# Altium footprint library Package_CSP.PcbLib: 178 footprints (part 10 of 12)
Each footprint in its own frame and in the unit in brackets; x right, y up, seen from the top. Pads: shape width x height; smd on the part's side, far side on the other; paste and mask are expansions set on the pad; w line width, h text height; cw(c..) or ccw(c..) is an arc to the next point about the centre after c.
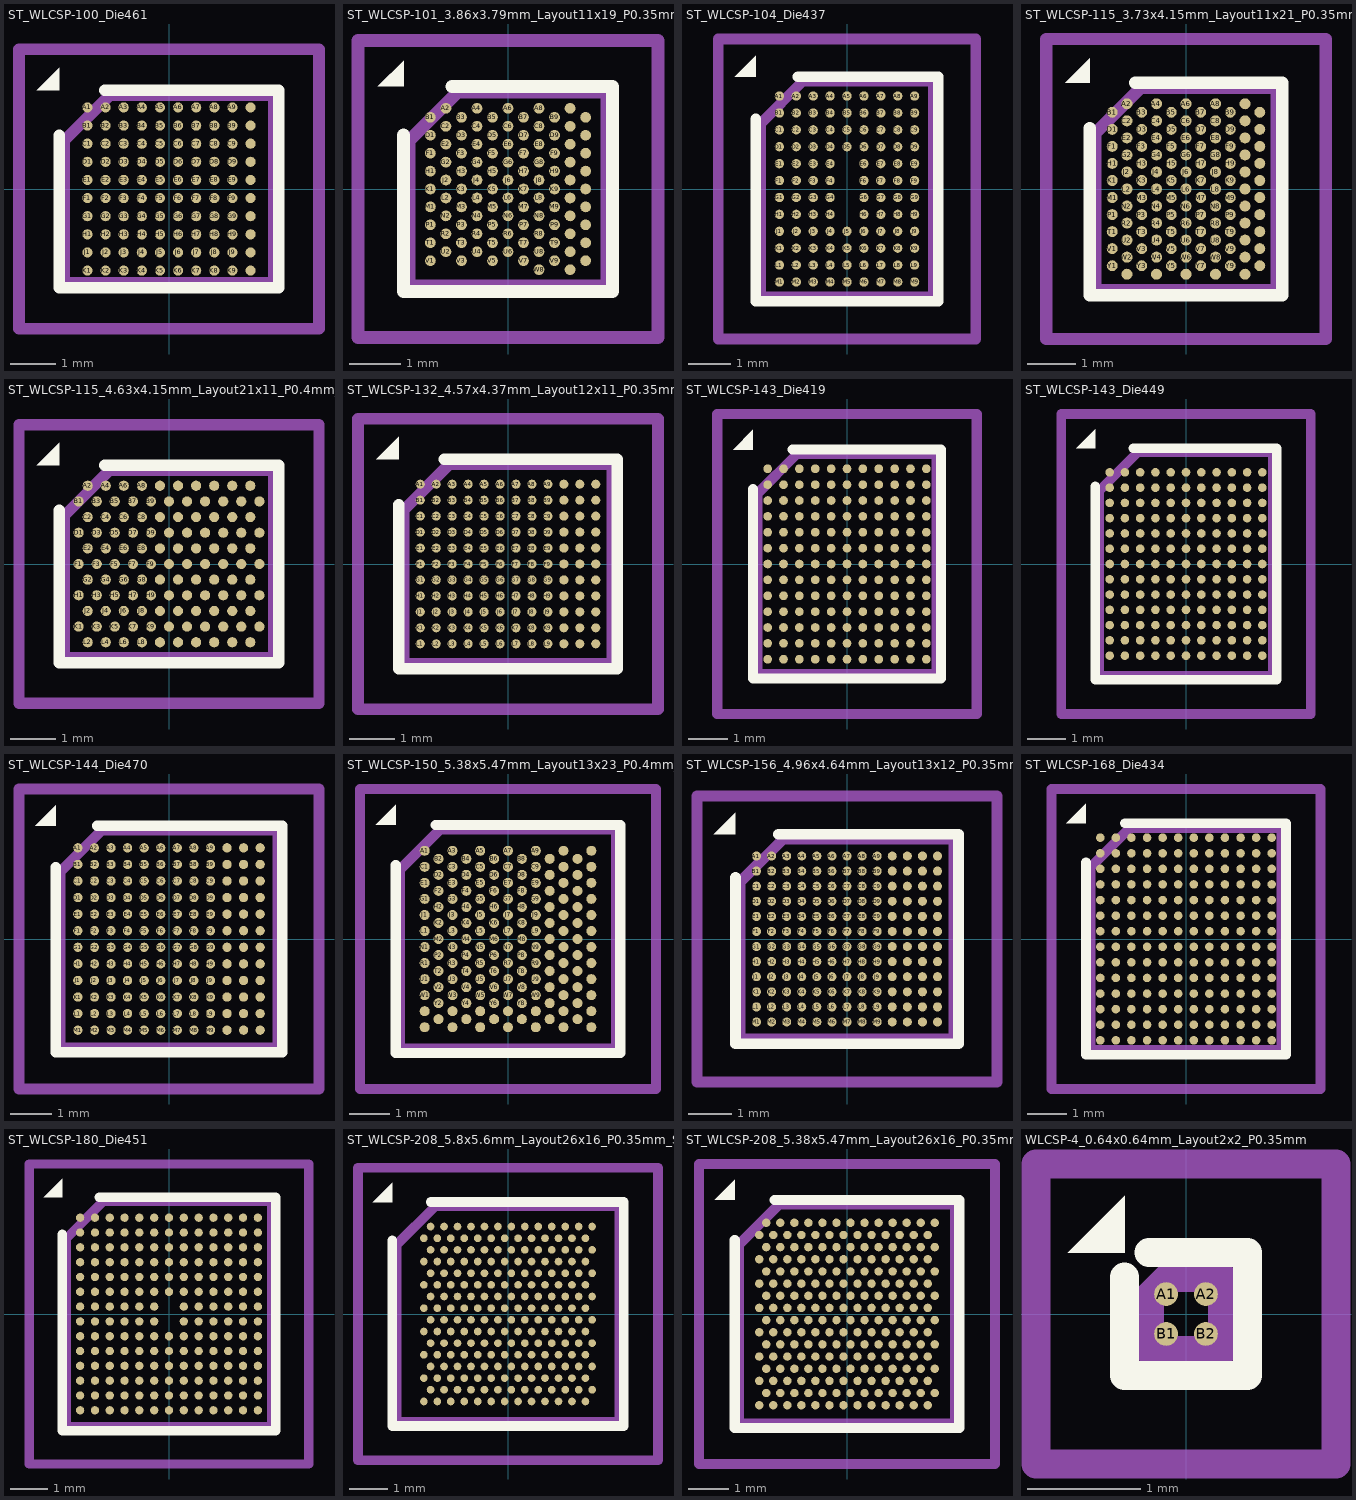
[diagram p9: the footprints below, top view; thin cyan lines are the x and y axes]

## ST_WLCSP-100_Die461 [mm]
pads (100):
  round 0.225 smd: A1(-1.8,1.8) A2(-1.4,1.8) A3(-1,1.8) A4(-0.6,1.8) A5(-0.2,1.8) A6(0.2,1.8) A7(0.6,1.8) A8(1,1.8) A9(1.4,1.8) A10(1.8,1.8) B1(-1.8,1.4) B2(-1.4,1.4) B3(-1,1.4) B4(-0.6,1.4) B5(-0.2,1.4) B6(0.2,1.4) B7(0.6,1.4) B8(1,1.4) B9(1.4,1.4) B10(1.8,1.4) C1(-1.8,1) C2(-1.4,1) C3(-1,1) C4(-0.6,1) C5(-0.2,1) C6(0.2,1) C7(0.6,1) C8(1,1) C9(1.4,1) C10(1.8,1) D1(-1.8,0.6) D2(-1.4,0.6) D3(-1,0.6) D4(-0.6,0.6) D5(-0.2,0.6) D6(0.2,0.6) D7(0.6,0.6) D8(1,0.6) D9(1.4,0.6) D10(1.8,0.6) E1(-1.8,0.2) E2(-1.4,0.2) E3(-1,0.2) E4(-0.6,0.2) E5(-0.2,0.2) E6(0.2,0.2) E7(0.6,0.2) E8(1,0.2) E9(1.4,0.2) E10(1.8,0.2) F1(-1.8,-0.2) F2(-1.4,-0.2) F3(-1,-0.2) F4(-0.6,-0.2) F5(-0.2,-0.2) F6(0.2,-0.2) F7(0.6,-0.2) F8(1,-0.2) F9(1.4,-0.2) F10(1.8,-0.2) G1(-1.8,-0.6) G2(-1.4,-0.6) G3(-1,-0.6) G4(-0.6,-0.6) G5(-0.2,-0.6) G6(0.2,-0.6) G7(0.6,-0.6) G8(1,-0.6) G9(1.4,-0.6) G10(1.8,-0.6) H1(-1.8,-1) H2(-1.4,-1) H3(-1,-1) H4(-0.6,-1) H5(-0.2,-1) H6(0.2,-1) H7(0.6,-1) H8(1,-1) H9(1.4,-1) H10(1.8,-1) J1(-1.8,-1.4) J2(-1.4,-1.4) J3(-1,-1.4) J4(-0.6,-1.4) J5(-0.2,-1.4) J6(0.2,-1.4) J7(0.6,-1.4) J8(1,-1.4) J9(1.4,-1.4) J10(1.8,-1.4) K1(-1.8,-1.8) K2(-1.4,-1.8) K3(-1,-1.8) K4(-0.6,-1.8) K5(-0.2,-1.8) K6(0.2,-1.8) K7(0.6,-1.8) K8(1,-1.8) K9(1.4,-1.8) K10(1.8,-1.8)
F.SilkS:
  region: -2.419,2.181 -2.919,2.181 -2.419,2.681
  lines w0.254: -2.419,1.181 -2.419,-2.181 2.419,-2.181 2.419,2.181 -1.419,2.181
Top Assembly:
  lines w0.254: -2.309,-2.071 2.309,-2.071 2.309,2.071 -1.309,2.071 -2.309,1.071 -2.309,-2.071
  text "'.Designator'" at -4.047,-0.84 h1
Top Courtyard:
  lines w0.254: -3.31,-3.08 3.31,-3.08 3.31,3.08 -3.31,3.08 -3.31,-3.08
Top Designator:
  text ".Designator" at -7.768,-0.508 h1.52

## ST_WLCSP-101_3.86x3.79mm_Layout11x19_P0.35mm_Stagger [mm]
pads (101):
  round 0.21 smd: A2(-1.212,1.575) A4(-0.606,1.575) A6(0,1.575) A8(0.606,1.575) A10(1.212,1.575) B1(-1.516,1.4) B3(-0.909,1.4) B5(-0.303,1.4) B7(0.303,1.4) B9(0.909,1.4) B11(1.516,1.4) C2(-1.212,1.225) C4(-0.606,1.225) C6(0,1.225) C8(0.606,1.225) C10(1.212,1.225) D1(-1.516,1.05) D3(-0.909,1.05) D5(-0.303,1.05) D7(0.303,1.05) D9(0.909,1.05) D11(1.516,1.05) E2(-1.212,0.875) E4(-0.606,0.875) E6(0,0.875) E8(0.606,0.875) E10(1.212,0.875) F1(-1.516,0.7) F3(-0.909,0.7) F5(-0.303,0.7) F7(0.303,0.7) F9(0.909,0.7) F11(1.516,0.7) G2(-1.212,0.525) G4(-0.606,0.525) G6(0,0.525) G8(0.606,0.525) G10(1.212,0.525) H1(-1.516,0.35) H3(-0.909,0.35) H5(-0.303,0.35) H7(0.303,0.35) H9(0.909,0.35) H11(1.516,0.35) J2(-1.212,0.175) J4(-0.606,0.175) J6(0,0.175) J8(0.606,0.175) J10(1.212,0.175) K1(-1.516,0) K3(-0.909,0) K5(-0.303,0) K7(0.303,0) K9(0.909,0) K11(1.516,0) L2(-1.212,-0.175) L4(-0.606,-0.175) L6(0,-0.175) L8(0.606,-0.175) L10(1.212,-0.175) M1(-1.516,-0.35) M3(-0.909,-0.35) M5(-0.303,-0.35) M7(0.303,-0.35) M9(0.909,-0.35) M11(1.516,-0.35) N2(-1.212,-0.525) N4(-0.606,-0.525) N6(0,-0.525) N8(0.606,-0.525) N10(1.212,-0.525) P1(-1.516,-0.7) P3(-0.909,-0.7) P5(-0.303,-0.7) P7(0.303,-0.7) P9(0.909,-0.7) P11(1.516,-0.7) R2(-1.212,-0.875) R4(-0.606,-0.875) R6(0,-0.875) R8(0.606,-0.875) R10(1.212,-0.875) T1(-1.516,-1.05) T3(-0.909,-1.05) T5(-0.303,-1.05) T7(0.303,-1.05) T9(0.909,-1.05) T11(1.516,-1.05) U2(-1.212,-1.225) U4(-0.606,-1.225) U6(0,-1.225) U8(0.606,-1.225) U10(1.212,-1.225) V1(-1.516,-1.4) V3(-0.909,-1.4) V5(-0.303,-1.4) V7(0.303,-1.4) V9(0.909,-1.4) V11(1.516,-1.4) W8(0.606,-1.575) W10(1.212,-1.575)
F.SilkS:
  region: -2.04,2.005 -2.54,2.005 -2.04,2.505
  lines w0.254: -2.04,1.058 -2.04,-2.005 2.04,-2.005 2.04,2.005 -1.092,2.005
Top Assembly:
  lines w0.254: -1.93,-1.895 1.93,-1.895 1.93,1.895 -0.982,1.895 -1.93,0.947 -1.93,-1.895
  text "'.Designator'" at -3.642,-0.756 h0.9
Top Courtyard:
  lines w0.254: -2.93,-2.9 2.93,-2.9 2.93,2.9 -2.93,2.9 -2.93,-2.9
Top Designator:
  text ".Designator" at -7.753,-0.508 h1.52

## ST_WLCSP-104_Die437 [mm]
pads (104):
  round 0.22 smd: A1(-1.6,2.2) A2(-1.2,2.2) A3(-0.8,2.2) A4(-0.4,2.2) A5(0,2.2) A6(0.4,2.2) A7(0.8,2.2) A8(1.2,2.2) A9(1.6,2.2) B1(-1.6,1.8) B2(-1.2,1.8) B3(-0.8,1.8) B4(-0.4,1.8) B5(0,1.8) B6(0.4,1.8) B7(0.8,1.8) B8(1.2,1.8) B9(1.6,1.8) C1(-1.6,1.4) C2(-1.2,1.4) C3(-0.8,1.4) C4(-0.4,1.4) C5(0,1.4) C6(0.4,1.4) C7(0.8,1.4) C8(1.2,1.4) C9(1.6,1.4) D1(-1.6,1) D2(-1.2,1) D3(-0.8,1) D4(-0.4,1) D5(0,1) D6(0.4,1) D7(0.8,1) D8(1.2,1) D9(1.6,1) E1(-1.6,0.6) E2(-1.2,0.6) E3(-0.8,0.6) E4(-0.4,0.6) E6(0.4,0.6) E7(0.8,0.6) E8(1.2,0.6) E9(1.6,0.6) F1(-1.6,0.2) F2(-1.2,0.2) F3(-0.8,0.2) F4(-0.4,0.2) F6(0.4,0.2) F7(0.8,0.2) F8(1.2,0.2) F9(1.6,0.2) G1(-1.6,-0.2) G2(-1.2,-0.2) G3(-0.8,-0.2) G4(-0.4,-0.2) G6(0.4,-0.2) G7(0.8,-0.2) G8(1.2,-0.2) G9(1.6,-0.2) H1(-1.6,-0.6) H2(-1.2,-0.6) H3(-0.8,-0.6) H4(-0.4,-0.6) H6(0.4,-0.6) H7(0.8,-0.6) H8(1.2,-0.6) H9(1.6,-0.6) J1(-1.6,-1) J2(-1.2,-1) J3(-0.8,-1) J4(-0.4,-1) J5(0,-1) J6(0.4,-1) J7(0.8,-1) J8(1.2,-1) J9(1.6,-1) K1(-1.6,-1.4) K2(-1.2,-1.4) K3(-0.8,-1.4) K4(-0.4,-1.4) K5(0,-1.4) K6(0.4,-1.4) K7(0.8,-1.4) K8(1.2,-1.4) K9(1.6,-1.4) L1(-1.6,-1.8) L2(-1.2,-1.8) L3(-0.8,-1.8) L4(-0.4,-1.8) L5(0,-1.8) L6(0.4,-1.8) L7(0.8,-1.8) L8(1.2,-1.8) L9(1.6,-1.8) M1(-1.6,-2.2) M2(-1.2,-2.2) M3(-0.8,-2.2) M4(-0.4,-2.2) M5(0,-2.2) M6(0.4,-2.2) M7(0.8,-2.2) M8(1.2,-2.2) M9(1.6,-2.2)
F.SilkS:
  region: -2.157,2.657 -2.658,2.657 -2.157,3.157
  lines w0.254: -2.157,1.657 -2.157,-2.657 2.157,-2.657 2.157,2.657 -1.158,2.657
Top Assembly:
  lines w0.254: -2.047,-2.547 2.047,-2.547 2.047,2.547 -1.048,2.547 -2.047,1.547 -2.047,-2.547
  text "'.Designator'" at -0.84,4.047 h1
Top Courtyard:
  lines w0.254: -3.05,-3.55 3.05,-3.55 3.05,3.55 -3.05,3.55 -3.05,-3.55
Top Designator:
  text ".Designator" at -7.618,-0.358 h1.52

## ST_WLCSP-115_3.73x4.15mm_Layout11x21_P0.35mm_Stagger [mm]
pads (115):
  round 0.225 smd: A2(-1.212,1.75) A4(-0.606,1.75) A6(0,1.75) A8(0.606,1.75) A10(1.212,1.75) AA2(-1.212,-1.75) AA4(-0.606,-1.75) AA6(0,-1.75) AA8(0.606,-1.75) AA10(1.212,-1.75) B1(-1.516,1.575) B3(-0.909,1.575) B5(-0.303,1.575) B7(0.303,1.575) B9(0.909,1.575) B11(1.516,1.575) C2(-1.212,1.4) C4(-0.606,1.4) C6(0,1.4) C8(0.606,1.4) C10(1.212,1.4) D1(-1.516,1.225) D3(-0.909,1.225) D5(-0.303,1.225) D7(0.303,1.225) D9(0.909,1.225) D11(1.516,1.225) E2(-1.212,1.05) E4(-0.606,1.05) E6(0,1.05) E8(0.606,1.05) E10(1.212,1.05) F1(-1.516,0.875) F3(-0.909,0.875) F5(-0.303,0.875) F7(0.303,0.875) F9(0.909,0.875) F11(1.516,0.875) G2(-1.212,0.7) G4(-0.606,0.7) G6(0,0.7) G8(0.606,0.7) G10(1.212,0.7) H1(-1.516,0.525) H3(-0.909,0.525) H5(-0.303,0.525) H7(0.303,0.525) H9(0.909,0.525) H11(1.516,0.525) J2(-1.212,0.35) J4(-0.606,0.35) J6(0,0.35) J8(0.606,0.35) J10(1.212,0.35) K1(-1.516,0.175) K3(-0.909,0.175) K5(-0.303,0.175) K7(0.303,0.175) K9(0.909,0.175) K11(1.516,0.175) L2(-1.212,0) L4(-0.606,0) L6(0,0) L8(0.606,0) L10(1.212,0) M1(-1.516,-0.175) M3(-0.909,-0.175) M5(-0.303,-0.175) M7(0.303,-0.175) M9(0.909,-0.175) M11(1.516,-0.175) N2(-1.212,-0.35) N4(-0.606,-0.35) N6(0,-0.35) N8(0.606,-0.35) N10(1.212,-0.35) P1(-1.516,-0.525) P3(-0.909,-0.525) P5(-0.303,-0.525) P7(0.303,-0.525) P9(0.909,-0.525) P11(1.516,-0.525) R2(-1.212,-0.7) R4(-0.606,-0.7) R6(0,-0.7) R8(0.606,-0.7) R10(1.212,-0.7) T1(-1.516,-0.875) T3(-0.909,-0.875) T5(-0.303,-0.875) T7(0.303,-0.875) T9(0.909,-0.875) T11(1.516,-0.875) U2(-1.212,-1.05) U4(-0.606,-1.05) U6(0,-1.05) U8(0.606,-1.05) U10(1.212,-1.05) V1(-1.516,-1.225) V3(-0.909,-1.225) V5(-0.303,-1.225) V7(0.303,-1.225) V9(0.909,-1.225) V11(1.516,-1.225) W2(-1.212,-1.4) W4(-0.606,-1.4) W6(0,-1.4) W8(0.606,-1.4) W10(1.212,-1.4) Y1(-1.516,-1.575) Y3(-0.909,-1.575) Y5(-0.303,-1.575) Y7(0.303,-1.575) Y9(0.909,-1.575) Y11(1.516,-1.575)
F.SilkS:
  region: -1.975,2.185 -2.475,2.185 -1.975,2.685
  lines w0.254: -1.975,1.252 -1.975,-2.185 1.975,-2.185 1.975,2.185 -1.042,2.185
Top Assembly:
  lines w0.254: -1.865,-2.075 1.865,-2.075 1.865,2.075 -0.933,2.075 -1.865,1.142 -1.865,-2.075
  text "'.Designator'" at -0.815,3.925 h0.97
Top Courtyard:
  lines w0.254: -2.87,-3.08 2.87,-3.08 2.87,3.08 -2.87,3.08 -2.87,-3.08
Top Designator:
  text ".Designator" at -7.618,-0.362 h1.52

## ST_WLCSP-115_4.63x4.15mm_Layout21x11_P0.4mm_Stagger [mm]
pads (115):
  round 0.225 smd: A2(-1.8,1.732) A4(-1.4,1.732) A6(-1,1.732) A8(-0.6,1.732) A10(-0.2,1.732) A12(0.2,1.732) A14(0.6,1.732) A16(1,1.732) A18(1.4,1.732) A20(1.8,1.732) B1(-2,1.386) B3(-1.6,1.386) B5(-1.2,1.386) B7(-0.8,1.386) B9(-0.4,1.386) B11(0,1.386) B13(0.4,1.386) B15(0.8,1.386) B17(1.2,1.386) B19(1.6,1.386) B21(2,1.386) C2(-1.8,1.039) C4(-1.4,1.039) C6(-1,1.039) C8(-0.6,1.039) C10(-0.2,1.039) C12(0.2,1.039) C14(0.6,1.039) C16(1,1.039) C18(1.4,1.039) C20(1.8,1.039) D1(-2,0.693) D3(-1.6,0.693) D5(-1.2,0.693) D7(-0.8,0.693) D9(-0.4,0.693) D11(0,0.693) D13(0.4,0.693) D15(0.8,0.693) D17(1.2,0.693) D19(1.6,0.693) D21(2,0.693) E2(-1.8,0.346) E4(-1.4,0.346) E6(-1,0.346) E8(-0.6,0.346) E10(-0.2,0.346) E12(0.2,0.346) E14(0.6,0.346) E16(1,0.346) E18(1.4,0.346) E20(1.8,0.346) F1(-2,0) F3(-1.6,0) F5(-1.2,0) F7(-0.8,0) F9(-0.4,0) F11(0,0) F13(0.4,0) F15(0.8,0) F17(1.2,0) F19(1.6,0) F21(2,0) G2(-1.8,-0.346) G4(-1.4,-0.346) G6(-1,-0.346) G8(-0.6,-0.346) G10(-0.2,-0.346) G12(0.2,-0.346) G14(0.6,-0.346) G16(1,-0.346) G18(1.4,-0.346) G20(1.8,-0.346) H1(-2,-0.693) H3(-1.6,-0.693) H5(-1.2,-0.693) H7(-0.8,-0.693) H9(-0.4,-0.693) H11(0,-0.693) H13(0.4,-0.693) H15(0.8,-0.693) H17(1.2,-0.693) H19(1.6,-0.693) H21(2,-0.693) J2(-1.8,-1.039) J4(-1.4,-1.039) J6(-1,-1.039) J8(-0.6,-1.039) J10(-0.2,-1.039) J12(0.2,-1.039) J14(0.6,-1.039) J16(1,-1.039) J18(1.4,-1.039) J20(1.8,-1.039) K1(-2,-1.386) K3(-1.6,-1.386) K5(-1.2,-1.386) K7(-0.8,-1.386) K9(-0.4,-1.386) K11(0,-1.386) K13(0.4,-1.386) K15(0.8,-1.386) K17(1.2,-1.386) K19(1.6,-1.386) K21(2,-1.386) L2(-1.8,-1.732) L4(-1.4,-1.732) L6(-1,-1.732) L8(-0.6,-1.732) L10(-0.2,-1.732) L12(0.2,-1.732) L14(0.6,-1.732) L16(1,-1.732) L18(1.4,-1.732) L20(1.8,-1.732)
F.SilkS:
  region: -2.425,2.185 -2.925,2.185 -2.425,2.685
  lines w0.254: -2.425,1.185 -2.425,-2.185 2.425,-2.185 2.425,2.185 -1.425,2.185
Top Assembly:
  lines w0.254: -2.315,-2.075 2.315,-2.075 2.315,2.075 -1.315,2.075 -2.315,1.075 -2.315,-2.075
  text "'.Designator'" at -4.047,-0.84 h1
Top Courtyard:
  lines w0.254: -3.32,-3.08 3.32,-3.08 3.32,3.08 -3.32,3.08 -3.32,-3.08
Top Designator:
  text ".Designator" at -7.768,-0.508 h1.52

## ST_WLCSP-132_4.57x4.37mm_Layout12x11_P0.35mm [mm]
pads (132):
  round 0.2 smd: A1(-1.925,1.75) A2(-1.575,1.75) A3(-1.225,1.75) A4(-0.875,1.75) A5(-0.525,1.75) A6(-0.175,1.75) A7(0.175,1.75) A8(0.525,1.75) A9(0.875,1.75) A10(1.225,1.75) A11(1.575,1.75) A12(1.925,1.75) B1(-1.925,1.4) B2(-1.575,1.4) B3(-1.225,1.4) B4(-0.875,1.4) B5(-0.525,1.4) B6(-0.175,1.4) B7(0.175,1.4) B8(0.525,1.4) B9(0.875,1.4) B10(1.225,1.4) B11(1.575,1.4) B12(1.925,1.4) C1(-1.925,1.05) C2(-1.575,1.05) C3(-1.225,1.05) C4(-0.875,1.05) C5(-0.525,1.05) C6(-0.175,1.05) C7(0.175,1.05) C8(0.525,1.05) C9(0.875,1.05) C10(1.225,1.05) C11(1.575,1.05) C12(1.925,1.05) D1(-1.925,0.7) D2(-1.575,0.7) D3(-1.225,0.7) D4(-0.875,0.7) D5(-0.525,0.7) D6(-0.175,0.7) D7(0.175,0.7) D8(0.525,0.7) D9(0.875,0.7) D10(1.225,0.7) D11(1.575,0.7) D12(1.925,0.7) E1(-1.925,0.35) E2(-1.575,0.35) E3(-1.225,0.35) E4(-0.875,0.35) E5(-0.525,0.35) E6(-0.175,0.35) E7(0.175,0.35) E8(0.525,0.35) E9(0.875,0.35) E10(1.225,0.35) E11(1.575,0.35) E12(1.925,0.35) F1(-1.925,0) F2(-1.575,0) F3(-1.225,0) F4(-0.875,0) F5(-0.525,0) F6(-0.175,0) F7(0.175,0) F8(0.525,0) F9(0.875,0) F10(1.225,0) F11(1.575,0) F12(1.925,0) G1(-1.925,-0.35) G2(-1.575,-0.35) G3(-1.225,-0.35) G4(-0.875,-0.35) G5(-0.525,-0.35) G6(-0.175,-0.35) G7(0.175,-0.35) G8(0.525,-0.35) G9(0.875,-0.35) G10(1.225,-0.35) G11(1.575,-0.35) G12(1.925,-0.35) H1(-1.925,-0.7) H2(-1.575,-0.7) H3(-1.225,-0.7) H4(-0.875,-0.7) H5(-0.525,-0.7) H6(-0.175,-0.7) H7(0.175,-0.7) H8(0.525,-0.7) H9(0.875,-0.7) H10(1.225,-0.7) H11(1.575,-0.7) H12(1.925,-0.7) J1(-1.925,-1.05) J2(-1.575,-1.05) J3(-1.225,-1.05) J4(-0.875,-1.05) J5(-0.525,-1.05) J6(-0.175,-1.05) J7(0.175,-1.05) J8(0.525,-1.05) J9(0.875,-1.05) J10(1.225,-1.05) J11(1.575,-1.05) J12(1.925,-1.05) K1(-1.925,-1.4) K2(-1.575,-1.4) K3(-1.225,-1.4) K4(-0.875,-1.4) K5(-0.525,-1.4) K6(-0.175,-1.4) K7(0.175,-1.4) K8(0.525,-1.4) K9(0.875,-1.4) K10(1.225,-1.4) K11(1.575,-1.4) K12(1.925,-1.4) L1(-1.925,-1.75) L2(-1.575,-1.75) L3(-1.225,-1.75) L4(-0.875,-1.75) L5(-0.525,-1.75) L6(-0.175,-1.75) L7(0.175,-1.75) L8(0.525,-1.75) L9(0.875,-1.75) L10(1.225,-1.75) L11(1.575,-1.75) L12(1.925,-1.75)
F.SilkS:
  region: -2.395,2.295 -2.895,2.295 -2.395,2.795
  lines w0.254: -2.395,1.295 -2.395,-2.295 2.395,-2.295 2.395,2.295 -1.395,2.295
Top Assembly:
  lines w0.254: -2.285,-2.185 2.285,-2.185 2.285,2.185 -1.285,2.185 -2.285,1.185 -2.285,-2.185
  text "'.Designator'" at -4.047,-0.84 h1
Top Courtyard:
  lines w0.254: -3.29,-3.19 3.29,-3.19 3.29,3.19 -3.29,3.19 -3.29,-3.19
Top Designator:
  text ".Designator" at -7.768,-0.508 h1.52

## ST_WLCSP-143_Die419 [mm]
pads (143):
  round 0.22 smd: A1(-2,2.4) A2(-1.6,2.4) A3(-1.2,2.4) A4(-0.8,2.4) A5(-0.4,2.4) A6(0,2.4) A7(0.4,2.4) A8(0.8,2.4) A9(1.2,2.4) A10(1.6,2.4) A11(2,2.4) B1(-2,2) B2(-1.6,2) B3(-1.2,2) B4(-0.8,2) B5(-0.4,2) B6(0,2) B7(0.4,2) B8(0.8,2) B9(1.2,2) B10(1.6,2) B11(2,2) C1(-2,1.6) C2(-1.6,1.6) C3(-1.2,1.6) C4(-0.8,1.6) C5(-0.4,1.6) C6(0,1.6) C7(0.4,1.6) C8(0.8,1.6) C9(1.2,1.6) C10(1.6,1.6) C11(2,1.6) D1(-2,1.2) D2(-1.6,1.2) D3(-1.2,1.2) D4(-0.8,1.2) D5(-0.4,1.2) D6(0,1.2) D7(0.4,1.2) D8(0.8,1.2) D9(1.2,1.2) D10(1.6,1.2) D11(2,1.2) E1(-2,0.8) E2(-1.6,0.8) E3(-1.2,0.8) E4(-0.8,0.8) E5(-0.4,0.8) E6(0,0.8) E7(0.4,0.8) E8(0.8,0.8) E9(1.2,0.8) E10(1.6,0.8) E11(2,0.8) F1(-2,0.4) F2(-1.6,0.4) F3(-1.2,0.4) F4(-0.8,0.4) F5(-0.4,0.4) F6(0,0.4) F7(0.4,0.4) F8(0.8,0.4) F9(1.2,0.4) F10(1.6,0.4) F11(2,0.4) G1(-2,0) G2(-1.6,0) G3(-1.2,0) G4(-0.8,0) G5(-0.4,0) G6(0,0) G7(0.4,0) G8(0.8,0) G9(1.2,0) G10(1.6,0) G11(2,0) H1(-2,-0.4) H2(-1.6,-0.4) H3(-1.2,-0.4) H4(-0.8,-0.4) H5(-0.4,-0.4) H6(0,-0.4) H7(0.4,-0.4) H8(0.8,-0.4) H9(1.2,-0.4) H10(1.6,-0.4) H11(2,-0.4) J1(-2,-0.8) J2(-1.6,-0.8) J3(-1.2,-0.8) J4(-0.8,-0.8) J5(-0.4,-0.8) J6(0,-0.8) J7(0.4,-0.8) J8(0.8,-0.8) J9(1.2,-0.8) J10(1.6,-0.8) J11(2,-0.8) K1(-2,-1.2) K2(-1.6,-1.2) K3(-1.2,-1.2) K4(-0.8,-1.2) K5(-0.4,-1.2) K6(0,-1.2) K7(0.4,-1.2) K8(0.8,-1.2) K9(1.2,-1.2) K10(1.6,-1.2) K11(2,-1.2) L1(-2,-1.6) L2(-1.6,-1.6) L3(-1.2,-1.6) L4(-0.8,-1.6) L5(-0.4,-1.6) L6(0,-1.6) L7(0.4,-1.6) L8(0.8,-1.6) L9(1.2,-1.6) L10(1.6,-1.6) L11(2,-1.6) M1(-2,-2) M2(-1.6,-2) M3(-1.2,-2) M4(-0.8,-2) M5(-0.4,-2) M6(0,-2) M7(0.4,-2) M8(0.8,-2) M9(1.2,-2) M10(1.6,-2) M11(2,-2) N1(-2,-2.4) N2(-1.6,-2.4) N3(-1.2,-2.4) N4(-0.8,-2.4) N5(-0.4,-2.4) N6(0,-2.4) N7(0.4,-2.4) N8(0.8,-2.4) N9(1.2,-2.4) N10(1.6,-2.4) N11(2,-2.4)
F.SilkS:
  region: -2.371,2.883 -2.87,2.883 -2.371,3.384
  lines w0.254: -2.371,1.883 -2.371,-2.883 2.371,-2.883 2.371,2.883 -1.371,2.883
Top Assembly:
  lines w0.254: -2.261,-2.773 2.261,-2.773 2.261,2.773 -1.261,2.773 -2.261,1.773 -2.261,-2.773
  text "'.Designator'" at -4.047,-0.84 h1
Top Courtyard:
  lines w0.254: -3.27,-3.78 3.27,-3.78 3.27,3.78 -3.27,3.78 -3.27,-3.78
Top Designator:
  text ".Designator" at -7.768,-0.508 h1.52

## ST_WLCSP-143_Die449 [mm]
pads (143):
  round 0.225 smd: A1(-2,2.4) A2(-1.6,2.4) A3(-1.2,2.4) A4(-0.8,2.4) A5(-0.4,2.4) A6(0,2.4) A7(0.4,2.4) A8(0.8,2.4) A9(1.2,2.4) A10(1.6,2.4) A11(2,2.4) B1(-2,2) B2(-1.6,2) B3(-1.2,2) B4(-0.8,2) B5(-0.4,2) B6(0,2) B7(0.4,2) B8(0.8,2) B9(1.2,2) B10(1.6,2) B11(2,2) C1(-2,1.6) C2(-1.6,1.6) C3(-1.2,1.6) C4(-0.8,1.6) C5(-0.4,1.6) C6(0,1.6) C7(0.4,1.6) C8(0.8,1.6) C9(1.2,1.6) C10(1.6,1.6) C11(2,1.6) D1(-2,1.2) D2(-1.6,1.2) D3(-1.2,1.2) D4(-0.8,1.2) D5(-0.4,1.2) D6(0,1.2) D7(0.4,1.2) D8(0.8,1.2) D9(1.2,1.2) D10(1.6,1.2) D11(2,1.2) E1(-2,0.8) E2(-1.6,0.8) E3(-1.2,0.8) E4(-0.8,0.8) E5(-0.4,0.8) E6(0,0.8) E7(0.4,0.8) E8(0.8,0.8) E9(1.2,0.8) E10(1.6,0.8) E11(2,0.8) F1(-2,0.4) F2(-1.6,0.4) F3(-1.2,0.4) F4(-0.8,0.4) F5(-0.4,0.4) F6(0,0.4) F7(0.4,0.4) F8(0.8,0.4) F9(1.2,0.4) F10(1.6,0.4) F11(2,0.4) G1(-2,0) G2(-1.6,0) G3(-1.2,0) G4(-0.8,0) G5(-0.4,0) G6(0,0) G7(0.4,0) G8(0.8,0) G9(1.2,0) G10(1.6,0) G11(2,0) H1(-2,-0.4) H2(-1.6,-0.4) H3(-1.2,-0.4) H4(-0.8,-0.4) H5(-0.4,-0.4) H6(0,-0.4) H7(0.4,-0.4) H8(0.8,-0.4) H9(1.2,-0.4) H10(1.6,-0.4) H11(2,-0.4) J1(-2,-0.8) J2(-1.6,-0.8) J3(-1.2,-0.8) J4(-0.8,-0.8) J5(-0.4,-0.8) J6(0,-0.8) J7(0.4,-0.8) J8(0.8,-0.8) J9(1.2,-0.8) J10(1.6,-0.8) J11(2,-0.8) K1(-2,-1.2) K2(-1.6,-1.2) K3(-1.2,-1.2) K4(-0.8,-1.2) K5(-0.4,-1.2) K6(0,-1.2) K7(0.4,-1.2) K8(0.8,-1.2) K9(1.2,-1.2) K10(1.6,-1.2) K11(2,-1.2) L1(-2,-1.6) L2(-1.6,-1.6) L3(-1.2,-1.6) L4(-0.8,-1.6) L5(-0.4,-1.6) L6(0,-1.6) L7(0.4,-1.6) L8(0.8,-1.6) L9(1.2,-1.6) L10(1.6,-1.6) L11(2,-1.6) M1(-2,-2) M2(-1.6,-2) M3(-1.2,-2) M4(-0.8,-2) M5(-0.4,-2) M6(0,-2) M7(0.4,-2) M8(0.8,-2) M9(1.2,-2) M10(1.6,-2) M11(2,-2) N1(-2,-2.4) N2(-1.6,-2.4) N3(-1.2,-2.4) N4(-0.8,-2.4) N5(-0.4,-2.4) N6(0,-2.4) N7(0.4,-2.4) N8(0.8,-2.4) N9(1.2,-2.4) N10(1.6,-2.4) N11(2,-2.4)
F.SilkS:
  region: -2.379,3.034 -2.879,3.034 -2.379,3.534
  lines w0.254: -2.379,2.034 -2.379,-3.034 2.379,-3.034 2.379,3.034 -1.379,3.034
Top Assembly:
  lines w0.254: -2.27,-2.925 2.27,-2.925 2.27,2.925 -1.269,2.925 -2.27,1.924 -2.27,-2.925
  text "'.Designator'" at -4.047,-0.84 h1
Top Courtyard:
  lines w0.254: -3.27,-3.93 3.27,-3.93 3.27,3.93 -3.27,3.93 -3.27,-3.93
Top Designator:
  text ".Designator" at -7.768,-0.508 h1.52

## ST_WLCSP-144_Die470 [mm]
pads (144):
  round 0.225 smd: A1(-2.2,2.2) A2(-1.8,2.2) A3(-1.4,2.2) A4(-1,2.2) A5(-0.6,2.2) A6(-0.2,2.2) A7(0.2,2.2) A8(0.6,2.2) A9(1,2.2) A10(1.4,2.2) A11(1.8,2.2) A12(2.2,2.2) B1(-2.2,1.8) B2(-1.8,1.8) B3(-1.4,1.8) B4(-1,1.8) B5(-0.6,1.8) B6(-0.2,1.8) B7(0.2,1.8) B8(0.6,1.8) B9(1,1.8) B10(1.4,1.8) B11(1.8,1.8) B12(2.2,1.8) C1(-2.2,1.4) C2(-1.8,1.4) C3(-1.4,1.4) C4(-1,1.4) C5(-0.6,1.4) C6(-0.2,1.4) C7(0.2,1.4) C8(0.6,1.4) C9(1,1.4) C10(1.4,1.4) C11(1.8,1.4) C12(2.2,1.4) D1(-2.2,1) D2(-1.8,1) D3(-1.4,1) D4(-1,1) D5(-0.6,1) D6(-0.2,1) D7(0.2,1) D8(0.6,1) D9(1,1) D10(1.4,1) D11(1.8,1) D12(2.2,1) E1(-2.2,0.6) E2(-1.8,0.6) E3(-1.4,0.6) E4(-1,0.6) E5(-0.6,0.6) E6(-0.2,0.6) E7(0.2,0.6) E8(0.6,0.6) E9(1,0.6) E10(1.4,0.6) E11(1.8,0.6) E12(2.2,0.6) F1(-2.2,0.2) F2(-1.8,0.2) F3(-1.4,0.2) F4(-1,0.2) F5(-0.6,0.2) F6(-0.2,0.2) F7(0.2,0.2) F8(0.6,0.2) F9(1,0.2) F10(1.4,0.2) F11(1.8,0.2) F12(2.2,0.2) G1(-2.2,-0.2) G2(-1.8,-0.2) G3(-1.4,-0.2) G4(-1,-0.2) G5(-0.6,-0.2) G6(-0.2,-0.2) G7(0.2,-0.2) G8(0.6,-0.2) G9(1,-0.2) G10(1.4,-0.2) G11(1.8,-0.2) G12(2.2,-0.2) H1(-2.2,-0.6) H2(-1.8,-0.6) H3(-1.4,-0.6) H4(-1,-0.6) H5(-0.6,-0.6) H6(-0.2,-0.6) H7(0.2,-0.6) H8(0.6,-0.6) H9(1,-0.6) H10(1.4,-0.6) H11(1.8,-0.6) H12(2.2,-0.6) J1(-2.2,-1) J2(-1.8,-1) J3(-1.4,-1) J4(-1,-1) J5(-0.6,-1) J6(-0.2,-1) J7(0.2,-1) J8(0.6,-1) J9(1,-1) J10(1.4,-1) J11(1.8,-1) J12(2.2,-1) K1(-2.2,-1.4) K2(-1.8,-1.4) K3(-1.4,-1.4) K4(-1,-1.4) K5(-0.6,-1.4) K6(-0.2,-1.4) K7(0.2,-1.4) K8(0.6,-1.4) K9(1,-1.4) K10(1.4,-1.4) K11(1.8,-1.4) K12(2.2,-1.4) L1(-2.2,-1.8) L2(-1.8,-1.8) L3(-1.4,-1.8) L4(-1,-1.8) L5(-0.6,-1.8) L6(-0.2,-1.8) L7(0.2,-1.8) L8(0.6,-1.8) L9(1,-1.8) L10(1.4,-1.8) L11(1.8,-1.8) L12(2.2,-1.8) M1(-2.2,-2.2) M2(-1.8,-2.2) M3(-1.4,-2.2) M4(-1,-2.2) M5(-0.6,-2.2) M6(-0.2,-2.2) M7(0.2,-2.2) M8(0.6,-2.2) M9(1,-2.2) M10(1.4,-2.2) M11(1.8,-2.2) M12(2.2,-2.2)
F.SilkS:
  region: -2.73,2.73 -3.23,2.73 -2.73,3.23
  lines w0.254: -2.73,1.73 -2.73,-2.73 2.73,-2.73 2.73,2.73 -1.73,2.73
Top Assembly:
  lines w0.254: -2.62,-2.62 2.62,-2.62 2.62,2.62 -1.62,2.62 -2.62,1.62 -2.62,-2.62
  text "'.Designator'" at -4.047,-0.84 h1
Top Courtyard:
  lines w0.254: -3.62,-3.62 3.62,-3.62 3.62,3.62 -3.62,3.62 -3.62,-3.62
Top Designator:
  text ".Designator" at -7.768,-0.508 h1.52

## ST_WLCSP-150_5.38x5.47mm_Layout13x23_P0.4mm_Stagger [mm]
pads (150):
  round 0.25 smd: A1(-2.078,2.2) A3(-1.386,2.2) A5(-0.693,2.2) A7(0,2.2) A9(0.693,2.2) A11(1.386,2.2) A13(2.078,2.2) AA1(-2.078,-1.8) AA3(-1.386,-1.8) AA5(-0.693,-1.8) AA7(0,-1.8) AA9(0.693,-1.8) AA11(1.386,-1.8) AA13(2.078,-1.8) AB2(-1.732,-2) AB4(-1.039,-2) AB6(-0.346,-2) AB8(0.346,-2) AB10(1.039,-2) AB12(1.732,-2) AC1(-2.078,-2.2) AC3(-1.386,-2.2) AC5(-0.693,-2.2) AC7(0,-2.2) AC9(0.693,-2.2) AC11(1.386,-2.2) AC13(2.078,-2.2) B2(-1.732,2) B4(-1.039,2) B6(-0.346,2) B8(0.346,2) B10(1.039,2) B12(1.732,2) C1(-2.078,1.8) C3(-1.386,1.8) C5(-0.693,1.8) C7(0,1.8) C9(0.693,1.8) C11(1.386,1.8) C13(2.078,1.8) D2(-1.732,1.6) D4(-1.039,1.6) D6(-0.346,1.6) D8(0.346,1.6) D10(1.039,1.6) D12(1.732,1.6) E1(-2.078,1.4) E3(-1.386,1.4) E5(-0.693,1.4) E7(0,1.4) E9(0.693,1.4) E11(1.386,1.4) E13(2.078,1.4) F2(-1.732,1.2) F4(-1.039,1.2) F6(-0.346,1.2) F8(0.346,1.2) F10(1.039,1.2) F12(1.732,1.2) G1(-2.078,1) G3(-1.386,1) G5(-0.693,1) G7(0,1) G9(0.693,1) G11(1.386,1) G13(2.078,1) H2(-1.732,0.8) H4(-1.039,0.8) H6(-0.346,0.8) H8(0.346,0.8) H10(1.039,0.8) H12(1.732,0.8) J1(-2.078,0.6) J3(-1.386,0.6) J5(-0.693,0.6) J7(0,0.6) J9(0.693,0.6) J11(1.386,0.6) J13(2.078,0.6) K2(-1.732,0.4) K4(-1.039,0.4) K6(-0.346,0.4) K8(0.346,0.4) K10(1.039,0.4) K12(1.732,0.4) L1(-2.078,0.2) L3(-1.386,0.2) L5(-0.693,0.2) L7(0,0.2) L9(0.693,0.2) L11(1.386,0.2) L13(2.078,0.2) M2(-1.732,0) M4(-1.039,0) M6(-0.346,0) M8(0.346,0) M10(1.039,0) M12(1.732,0) N1(-2.078,-0.2) N3(-1.386,-0.2) N5(-0.693,-0.2) N7(0,-0.2) N9(0.693,-0.2) N11(1.386,-0.2) N13(2.078,-0.2) P2(-1.732,-0.4) P4(-1.039,-0.4) P6(-0.346,-0.4) P8(0.346,-0.4) P10(1.039,-0.4) P12(1.732,-0.4) R1(-2.078,-0.6) R3(-1.386,-0.6) R5(-0.693,-0.6) R7(0,-0.6) R9(0.693,-0.6) R11(1.386,-0.6) R13(2.078,-0.6) T2(-1.732,-0.8) T4(-1.039,-0.8) T6(-0.346,-0.8) T8(0.346,-0.8) T10(1.039,-0.8) T12(1.732,-0.8) U1(-2.078,-1) U3(-1.386,-1) U5(-0.693,-1) U7(0,-1) U9(0.693,-1) U11(1.386,-1) U13(2.078,-1) V2(-1.732,-1.2) V4(-1.039,-1.2) V6(-0.346,-1.2) V8(0.346,-1.2) V10(1.039,-1.2) V12(1.732,-1.2) W1(-2.078,-1.4) W3(-1.386,-1.4) W5(-0.693,-1.4) W7(0,-1.4) W9(0.693,-1.4) W11(1.386,-1.4) W13(2.078,-1.4) Y2(-1.732,-1.6) Y4(-1.039,-1.6) Y6(-0.346,-1.6) Y8(0.346,-1.6) Y10(1.039,-1.6) Y12(1.732,-1.6)
F.SilkS:
  region: -2.8,2.845 -3.3,2.845 -2.8,3.345
  lines w0.254: -2.8,1.845 -2.8,-2.845 2.8,-2.845 2.8,2.845 -1.8,2.845
Top Assembly:
  lines w0.254: -2.69,-2.735 2.69,-2.735 2.69,2.735 -1.69,2.735 -2.69,1.735 -2.69,-2.735
  text "'.Designator'" at -4.047,-0.84 h1
Top Courtyard:
  lines w0.254: -3.69,-3.74 3.69,-3.74 3.69,3.74 -3.69,3.74 -3.69,-3.74
Top Designator:
  text ".Designator" at -7.768,-0.508 h1.52

## ST_WLCSP-156_4.96x4.64mm_Layout13x12_P0.35mm [mm]
pads (156):
  round 0.21 smd: A1(-2.1,1.925) A2(-1.75,1.925) A3(-1.4,1.925) A4(-1.05,1.925) A5(-0.7,1.925) A6(-0.35,1.925) A7(0,1.925) A8(0.35,1.925) A9(0.7,1.925) A10(1.05,1.925) A11(1.4,1.925) A12(1.75,1.925) A13(2.1,1.925) B1(-2.1,1.575) B2(-1.75,1.575) B3(-1.4,1.575) B4(-1.05,1.575) B5(-0.7,1.575) B6(-0.35,1.575) B7(0,1.575) B8(0.35,1.575) B9(0.7,1.575) B10(1.05,1.575) B11(1.4,1.575) B12(1.75,1.575) B13(2.1,1.575) C1(-2.1,1.225) C2(-1.75,1.225) C3(-1.4,1.225) C4(-1.05,1.225) C5(-0.7,1.225) C6(-0.35,1.225) C7(0,1.225) C8(0.35,1.225) C9(0.7,1.225) C10(1.05,1.225) C11(1.4,1.225) C12(1.75,1.225) C13(2.1,1.225) D1(-2.1,0.875) D2(-1.75,0.875) D3(-1.4,0.875) D4(-1.05,0.875) D5(-0.7,0.875) D6(-0.35,0.875) D7(0,0.875) D8(0.35,0.875) D9(0.7,0.875) D10(1.05,0.875) D11(1.4,0.875) D12(1.75,0.875) D13(2.1,0.875) E1(-2.1,0.525) E2(-1.75,0.525) E3(-1.4,0.525) E4(-1.05,0.525) E5(-0.7,0.525) E6(-0.35,0.525) E7(0,0.525) E8(0.35,0.525) E9(0.7,0.525) E10(1.05,0.525) E11(1.4,0.525) E12(1.75,0.525) E13(2.1,0.525) F1(-2.1,0.175) F2(-1.75,0.175) F3(-1.4,0.175) F4(-1.05,0.175) F5(-0.7,0.175) F6(-0.35,0.175) F7(0,0.175) F8(0.35,0.175) F9(0.7,0.175) F10(1.05,0.175) F11(1.4,0.175) F12(1.75,0.175) F13(2.1,0.175) G1(-2.1,-0.175) G2(-1.75,-0.175) G3(-1.4,-0.175) G4(-1.05,-0.175) G5(-0.7,-0.175) G6(-0.35,-0.175) G7(0,-0.175) G8(0.35,-0.175) G9(0.7,-0.175) G10(1.05,-0.175) G11(1.4,-0.175) G12(1.75,-0.175) G13(2.1,-0.175) H1(-2.1,-0.525) H2(-1.75,-0.525) H3(-1.4,-0.525) H4(-1.05,-0.525) H5(-0.7,-0.525) H6(-0.35,-0.525) H7(0,-0.525) H8(0.35,-0.525) H9(0.7,-0.525) H10(1.05,-0.525) H11(1.4,-0.525) H12(1.75,-0.525) H13(2.1,-0.525) J1(-2.1,-0.875) J2(-1.75,-0.875) J3(-1.4,-0.875) J4(-1.05,-0.875) J5(-0.7,-0.875) J6(-0.35,-0.875) J7(0,-0.875) J8(0.35,-0.875) J9(0.7,-0.875) J10(1.05,-0.875) J11(1.4,-0.875) J12(1.75,-0.875) J13(2.1,-0.875) K1(-2.1,-1.225) K2(-1.75,-1.225) K3(-1.4,-1.225) K4(-1.05,-1.225) K5(-0.7,-1.225) K6(-0.35,-1.225) K7(0,-1.225) K8(0.35,-1.225) K9(0.7,-1.225) K10(1.05,-1.225) K11(1.4,-1.225) K12(1.75,-1.225) K13(2.1,-1.225) L1(-2.1,-1.575) L2(-1.75,-1.575) L3(-1.4,-1.575) L4(-1.05,-1.575) L5(-0.7,-1.575) L6(-0.35,-1.575) L7(0,-1.575) L8(0.35,-1.575) L9(0.7,-1.575) L10(1.05,-1.575) L11(1.4,-1.575) L12(1.75,-1.575) L13(2.1,-1.575) M1(-2.1,-1.925) M2(-1.75,-1.925) M3(-1.4,-1.925) M4(-1.05,-1.925) M5(-0.7,-1.925) M6(-0.35,-1.925) M7(0,-1.925) M8(0.35,-1.925) M9(0.7,-1.925) M10(1.05,-1.925) M11(1.4,-1.925) M12(1.75,-1.925) M13(2.1,-1.925)
F.SilkS:
  region: -2.59,2.43 -3.09,2.43 -2.59,2.93
  lines w0.254: -2.59,1.43 -2.59,-2.43 2.59,-2.43 2.59,2.43 -1.59,2.43
Top Assembly:
  lines w0.254: -2.48,-2.32 2.48,-2.32 2.48,2.32 -1.48,2.32 -2.48,1.32 -2.48,-2.32
  text "'.Designator'" at -4.047,-0.84 h1
Top Courtyard:
  lines w0.254: -3.48,-3.32 3.48,-3.32 3.48,3.32 -3.48,3.32 -3.48,-3.32
Top Designator:
  text ".Designator" at -7.768,-0.508 h1.52

## ST_WLCSP-168_Die434 [mm]
pads (168):
  round 0.22 smd: A1(-2.2,2.6) A2(-1.8,2.6) A3(-1.4,2.6) A4(-1,2.6) A5(-0.6,2.6) A6(-0.2,2.6) A7(0.2,2.6) A8(0.6,2.6) A9(1,2.6) A10(1.4,2.6) A11(1.8,2.6) A12(2.2,2.6) B1(-2.2,2.2) B2(-1.8,2.2) B3(-1.4,2.2) B4(-1,2.2) B5(-0.6,2.2) B6(-0.2,2.2) B7(0.2,2.2) B8(0.6,2.2) B9(1,2.2) B10(1.4,2.2) B11(1.8,2.2) B12(2.2,2.2) C1(-2.2,1.8) C2(-1.8,1.8) C3(-1.4,1.8) C4(-1,1.8) C5(-0.6,1.8) C6(-0.2,1.8) C7(0.2,1.8) C8(0.6,1.8) C9(1,1.8) C10(1.4,1.8) C11(1.8,1.8) C12(2.2,1.8) D1(-2.2,1.4) D2(-1.8,1.4) D3(-1.4,1.4) D4(-1,1.4) D5(-0.6,1.4) D6(-0.2,1.4) D7(0.2,1.4) D8(0.6,1.4) D9(1,1.4) D10(1.4,1.4) D11(1.8,1.4) D12(2.2,1.4) E1(-2.2,1) E2(-1.8,1) E3(-1.4,1) E4(-1,1) E5(-0.6,1) E6(-0.2,1) E7(0.2,1) E8(0.6,1) E9(1,1) E10(1.4,1) E11(1.8,1) E12(2.2,1) F1(-2.2,0.6) F2(-1.8,0.6) F3(-1.4,0.6) F4(-1,0.6) F5(-0.6,0.6) F6(-0.2,0.6) F7(0.2,0.6) F8(0.6,0.6) F9(1,0.6) F10(1.4,0.6) F11(1.8,0.6) F12(2.2,0.6) G1(-2.2,0.2) G2(-1.8,0.2) G3(-1.4,0.2) G4(-1,0.2) G5(-0.6,0.2) G6(-0.2,0.2) G7(0.2,0.2) G8(0.6,0.2) G9(1,0.2) G10(1.4,0.2) G11(1.8,0.2) G12(2.2,0.2) H1(-2.2,-0.2) H2(-1.8,-0.2) H3(-1.4,-0.2) H4(-1,-0.2) H5(-0.6,-0.2) H6(-0.2,-0.2) H7(0.2,-0.2) H8(0.6,-0.2) H9(1,-0.2) H10(1.4,-0.2) H11(1.8,-0.2) H12(2.2,-0.2) J1(-2.2,-0.6) J2(-1.8,-0.6) J3(-1.4,-0.6) J4(-1,-0.6) J5(-0.6,-0.6) J6(-0.2,-0.6) J7(0.2,-0.6) J8(0.6,-0.6) J9(1,-0.6) J10(1.4,-0.6) J11(1.8,-0.6) J12(2.2,-0.6) K1(-2.2,-1) K2(-1.8,-1) K3(-1.4,-1) K4(-1,-1) K5(-0.6,-1) K6(-0.2,-1) K7(0.2,-1) K8(0.6,-1) K9(1,-1) K10(1.4,-1) K11(1.8,-1) K12(2.2,-1) L1(-2.2,-1.4) L2(-1.8,-1.4) L3(-1.4,-1.4) L4(-1,-1.4) L5(-0.6,-1.4) L6(-0.2,-1.4) L7(0.2,-1.4) L8(0.6,-1.4) L9(1,-1.4) L10(1.4,-1.4) L11(1.8,-1.4) L12(2.2,-1.4) M1(-2.2,-1.8) M2(-1.8,-1.8) M3(-1.4,-1.8) M4(-1,-1.8) M5(-0.6,-1.8) M6(-0.2,-1.8) M7(0.2,-1.8) M8(0.6,-1.8) M9(1,-1.8) M10(1.4,-1.8) M11(1.8,-1.8) M12(2.2,-1.8) N1(-2.2,-2.2) N2(-1.8,-2.2) N3(-1.4,-2.2) N4(-1,-2.2) N5(-0.6,-2.2) N6(-0.2,-2.2) N7(0.2,-2.2) N8(0.6,-2.2) N9(1,-2.2) N10(1.4,-2.2) N11(1.8,-2.2) N12(2.2,-2.2) P1(-2.2,-2.6) P2(-1.8,-2.6) P3(-1.4,-2.6) P4(-1,-2.6) P5(-0.6,-2.6) P6(-0.2,-2.6) P7(0.2,-2.6) P8(0.6,-2.6) P9(1,-2.6) P10(1.4,-2.6) P11(1.8,-2.6) P12(2.2,-2.6)
F.SilkS:
  region: -2.57,2.97 -3.07,2.97 -2.57,3.47
  lines w0.254: -2.57,1.97 -2.57,-2.97 2.57,-2.97 2.57,2.97 -1.57,2.97
Top Assembly:
  lines w0.254: -2.445,-2.846 2.445,-2.846 2.445,2.846 -1.445,2.846 -2.445,1.846 -2.445,-2.846
  text "'.Designator'" at -4.047,-0.84 h1
Top Courtyard:
  lines w0.254: -3.45,-3.85 3.45,-3.85 3.45,3.85 -3.45,3.85 -3.45,-3.85
Top Designator:
  text ".Designator" at -7.768,-0.508 h1.52

## ST_WLCSP-180_Die451 [mm]
pads (180):
  round 0.225 smd: A1(-2.4,2.6) A2(-2,2.6) A3(-1.6,2.6) A4(-1.2,2.6) A5(-0.8,2.6) A6(-0.4,2.6) A7(0,2.6) A8(0.4,2.6) A9(0.8,2.6) A10(1.2,2.6) A11(1.6,2.6) A12(2,2.6) A13(2.4,2.6) B1(-2.4,2.2) B2(-2,2.2) B3(-1.6,2.2) B4(-1.2,2.2) B5(-0.8,2.2) B6(-0.4,2.2) B7(0,2.2) B8(0.4,2.2) B9(0.8,2.2) B10(1.2,2.2) B11(1.6,2.2) B12(2,2.2) B13(2.4,2.2) C1(-2.4,1.8) C2(-2,1.8) C3(-1.6,1.8) C4(-1.2,1.8) C5(-0.8,1.8) C6(-0.4,1.8) C7(0,1.8) C8(0.4,1.8) C9(0.8,1.8) C10(1.2,1.8) C11(1.6,1.8) C12(2,1.8) C13(2.4,1.8) D1(-2.4,1.4) D2(-2,1.4) D3(-1.6,1.4) D4(-1.2,1.4) D5(-0.8,1.4) D6(-0.4,1.4) D7(0,1.4) D8(0.4,1.4) D9(0.8,1.4) D10(1.2,1.4) D11(1.6,1.4) D12(2,1.4) D13(2.4,1.4) E1(-2.4,1) E2(-2,1) E3(-1.6,1) E4(-1.2,1) E5(-0.8,1) E6(-0.4,1) E7(0,1) E8(0.4,1) E9(0.8,1) E10(1.2,1) E11(1.6,1) E12(2,1) E13(2.4,1) F1(-2.4,0.6) F2(-2,0.6) F3(-1.6,0.6) F4(-1.2,0.6) F5(-0.8,0.6) F6(-0.4,0.6) F7(0,0.6) F8(0.4,0.6) F9(0.8,0.6) F10(1.2,0.6) F11(1.6,0.6) F12(2,0.6) F13(2.4,0.6) G1(-2.4,0.2) G2(-2,0.2) G3(-1.6,0.2) G4(-1.2,0.2) G5(-0.8,0.2) G6(-0.4,0.2) G8(0.4,0.2) G9(0.8,0.2) G10(1.2,0.2) G11(1.6,0.2) G12(2,0.2) G13(2.4,0.2) H1(-2.4,-0.2) H2(-2,-0.2) H3(-1.6,-0.2) H4(-1.2,-0.2) H5(-0.8,-0.2) H6(-0.4,-0.2) H8(0.4,-0.2) H9(0.8,-0.2) H10(1.2,-0.2) H11(1.6,-0.2) H12(2,-0.2) H13(2.4,-0.2) J1(-2.4,-0.6) J2(-2,-0.6) J3(-1.6,-0.6) J4(-1.2,-0.6) J5(-0.8,-0.6) J6(-0.4,-0.6) J7(0,-0.6) J8(0.4,-0.6) J9(0.8,-0.6) J10(1.2,-0.6) J11(1.6,-0.6) J12(2,-0.6) J13(2.4,-0.6) K1(-2.4,-1) K2(-2,-1) K3(-1.6,-1) K4(-1.2,-1) K5(-0.8,-1) K6(-0.4,-1) K7(0,-1) K8(0.4,-1) K9(0.8,-1) K10(1.2,-1) K11(1.6,-1) K12(2,-1) K13(2.4,-1) L1(-2.4,-1.4) L2(-2,-1.4) L3(-1.6,-1.4) L4(-1.2,-1.4) L5(-0.8,-1.4) L6(-0.4,-1.4) L7(0,-1.4) L8(0.4,-1.4) L9(0.8,-1.4) L10(1.2,-1.4) L11(1.6,-1.4) L12(2,-1.4) L13(2.4,-1.4) M1(-2.4,-1.8) M2(-2,-1.8) M3(-1.6,-1.8) M4(-1.2,-1.8) M5(-0.8,-1.8) M6(-0.4,-1.8) M7(0,-1.8) M8(0.4,-1.8) M9(0.8,-1.8) M10(1.2,-1.8) M11(1.6,-1.8) M12(2,-1.8) M13(2.4,-1.8) N1(-2.4,-2.2) N2(-2,-2.2) N3(-1.6,-2.2) N4(-1.2,-2.2) N5(-0.8,-2.2) N6(-0.4,-2.2) N7(0,-2.2) N8(0.4,-2.2) N9(0.8,-2.2) N10(1.2,-2.2) N11(1.6,-2.2) N12(2,-2.2) N13(2.4,-2.2) P1(-2.4,-2.6) P2(-2,-2.6) P3(-1.6,-2.6) P4(-1.2,-2.6) P5(-0.8,-2.6) P6(-0.4,-2.6) P7(0,-2.6) P8(0.4,-2.6) P9(0.8,-2.6) P10(1.2,-2.6) P11(1.6,-2.6) P12(2,-2.6) P13(2.4,-2.6)
F.SilkS:
  region: -2.879,3.157 -3.378,3.157 -2.879,3.658
  lines w0.254: -2.879,2.157 -2.879,-3.157 2.879,-3.157 2.879,3.157 -1.879,3.157
Top Assembly:
  lines w0.254: -2.769,-3.047 2.769,-3.047 2.769,3.047 -1.769,3.047 -2.769,2.047 -2.769,-3.047
  text "'.Designator'" at -4.047,-0.84 h1
Top Courtyard:
  lines w0.254: -3.77,-4.05 3.77,-4.05 3.77,4.05 -3.77,4.05 -3.77,-4.05
Top Designator:
  text ".Designator" at -7.767,-0.508 h1.52

## ST_WLCSP-208_5.8x5.6mm_Layout26x16_P0.35mm_Stagger [mm]
pads (208):
  round 0.2 smd: A2(-2.013,2.273) A4(-1.663,2.273) A6(-1.312,2.273) A8(-0.962,2.273) A10(-0.613,2.273) A12(-0.262,2.273) A14(0.088,2.273) A16(0.437,2.273) A18(0.787,2.273) A20(1.138,2.273) A22(1.488,2.273) A24(1.837,2.273) A26(2.187,2.273) B1(-2.187,1.97) B3(-1.837,1.97) B5(-1.488,1.97) B7(-1.138,1.97) B9(-0.787,1.97) B11(-0.437,1.97) B13(-0.088,1.97) B15(0.262,1.97) B17(0.613,1.97) B19(0.962,1.97) B21(1.312,1.97) B23(1.663,1.97) B25(2.013,1.97) C2(-2.013,1.667) C4(-1.663,1.667) C6(-1.312,1.667) C8(-0.962,1.667) C10(-0.613,1.667) C12(-0.262,1.667) C14(0.088,1.667) C16(0.437,1.667) C18(0.787,1.667) C20(1.138,1.667) C22(1.488,1.667) C24(1.837,1.667) C26(2.187,1.667) D1(-2.187,1.364) D3(-1.837,1.364) D5(-1.488,1.364) D7(-1.138,1.364) D9(-0.787,1.364) D11(-0.437,1.364) D13(-0.088,1.364) D15(0.262,1.364) D17(0.613,1.364) D19(0.962,1.364) D21(1.312,1.364) D23(1.663,1.364) D25(2.013,1.364) E2(-2.013,1.061) E4(-1.663,1.061) E6(-1.312,1.061) E8(-0.962,1.061) E10(-0.613,1.061) E12(-0.262,1.061) E14(0.088,1.061) E16(0.437,1.061) E18(0.787,1.061) E20(1.138,1.061) E22(1.488,1.061) E24(1.837,1.061) E26(2.187,1.061) F1(-2.187,0.758) F3(-1.837,0.758) F5(-1.488,0.758) F7(-1.138,0.758) F9(-0.787,0.758) F11(-0.437,0.758) F13(-0.088,0.758) F15(0.262,0.758) F17(0.613,0.758) F19(0.962,0.758) F21(1.312,0.758) F23(1.663,0.758) F25(2.013,0.758) G2(-2.013,0.455) G4(-1.663,0.455) G6(-1.312,0.455) G8(-0.962,0.455) G10(-0.613,0.455) G12(-0.262,0.455) G14(0.088,0.455) G16(0.437,0.455) G18(0.787,0.455) G20(1.138,0.455) G22(1.488,0.455) G24(1.837,0.455) G26(2.187,0.455) H1(-2.187,0.152) H3(-1.837,0.152) H5(-1.488,0.152) H7(-1.138,0.152) H9(-0.787,0.152) H11(-0.437,0.152) H13(-0.088,0.152) H15(0.262,0.152) H17(0.613,0.152) H19(0.962,0.152) H21(1.312,0.152) H23(1.663,0.152) H25(2.013,0.152) J2(-2.013,-0.152) J4(-1.663,-0.152) J6(-1.312,-0.152) J8(-0.962,-0.152) J10(-0.613,-0.152) J12(-0.262,-0.152) J14(0.088,-0.152) J16(0.437,-0.152) J18(0.787,-0.152) J20(1.138,-0.152) J22(1.488,-0.152) J24(1.837,-0.152) J26(2.187,-0.152) K1(-2.187,-0.455) K3(-1.837,-0.455) K5(-1.488,-0.455) K7(-1.138,-0.455) K9(-0.787,-0.455) K11(-0.437,-0.455) K13(-0.088,-0.455) K15(0.262,-0.455) K17(0.613,-0.455) K19(0.962,-0.455) K21(1.312,-0.455) K23(1.663,-0.455) K25(2.013,-0.455) L2(-2.013,-0.758) L4(-1.663,-0.758) L6(-1.312,-0.758) L8(-0.962,-0.758) L10(-0.613,-0.758) L12(-0.262,-0.758) L14(0.088,-0.758) L16(0.437,-0.758) L18(0.787,-0.758) L20(1.138,-0.758) L22(1.488,-0.758) L24(1.837,-0.758) L26(2.187,-0.758) M1(-2.187,-1.061) M3(-1.837,-1.061) M5(-1.488,-1.061) M7(-1.138,-1.061) M9(-0.787,-1.061) M11(-0.437,-1.061) M13(-0.088,-1.061) M15(0.262,-1.061) M17(0.613,-1.061) M19(0.962,-1.061) M21(1.312,-1.061) M23(1.663,-1.061) M25(2.013,-1.061) N2(-2.013,-1.364) N4(-1.663,-1.364) N6(-1.312,-1.364) N8(-0.962,-1.364) N10(-0.613,-1.364) N12(-0.262,-1.364) N14(0.088,-1.364) N16(0.437,-1.364) N18(0.787,-1.364) N20(1.138,-1.364) N22(1.488,-1.364) N24(1.837,-1.364) N26(2.187,-1.364) P1(-2.187,-1.667) P3(-1.837,-1.667) P5(-1.488,-1.667) P7(-1.138,-1.667) P9(-0.787,-1.667) P11(-0.437,-1.667) P13(-0.088,-1.667) P15(0.262,-1.667) P17(0.613,-1.667) P19(0.962,-1.667) P21(1.312,-1.667) P23(1.663,-1.667) P25(2.013,-1.667) R2(-2.013,-1.97) R4(-1.663,-1.97) R6(-1.312,-1.97) R8(-0.962,-1.97) R10(-0.613,-1.97) R12(-0.262,-1.97) R14(0.088,-1.97) R16(0.437,-1.97) R18(0.787,-1.97) R20(1.138,-1.97) R22(1.488,-1.97) R24(1.837,-1.97) R26(2.187,-1.97) T1(-2.187,-2.273) T3(-1.837,-2.273) T5(-1.488,-2.273) T7(-1.138,-2.273) T9(-0.787,-2.273) T11(-0.437,-2.273) T13(-0.088,-2.273) T15(0.262,-2.273) T17(0.613,-2.273) T19(0.962,-2.273) T21(1.312,-2.273) T23(1.663,-2.273) T25(2.013,-2.273)
F.SilkS:
  region: -3.01,2.91 -3.51,2.91 -3.01,3.41
  lines w0.254: -3.01,1.91 -3.01,-2.91 3.01,-2.91 3.01,2.91 -2.01,2.91
Top Assembly:
  lines w0.254: -2.9,-2.8 2.9,-2.8 2.9,2.8 -1.9,2.8 -2.9,1.8 -2.9,-2.8
  text "'.Designator'" at -4.047,-0.84 h1
Top Courtyard:
  lines w0.254: -3.9,-3.8 3.9,-3.8 3.9,3.8 -3.9,3.8 -3.9,-3.8
Top Designator:
  text ".Designator" at -7.702,-0.508 h1.52

## ST_WLCSP-208_5.38x5.47mm_Layout26x16_P0.35mm_Stagger [mm]
pads (208):
  round 0.21 smd: A2(-2.013,2.273) A4(-1.663,2.273) A6(-1.312,2.273) A8(-0.962,2.273) A10(-0.613,2.273) A12(-0.262,2.273) A14(0.088,2.273) A16(0.437,2.273) A18(0.787,2.273) A20(1.138,2.273) A22(1.488,2.273) A24(1.837,2.273) A26(2.187,2.273) B1(-2.187,1.97) B3(-1.837,1.97) B5(-1.488,1.97) B7(-1.138,1.97) B9(-0.787,1.97) B11(-0.437,1.97) B13(-0.088,1.97) B15(0.262,1.97) B17(0.613,1.97) B19(0.962,1.97) B21(1.312,1.97) B23(1.663,1.97) B25(2.013,1.97) C2(-2.013,1.667) C4(-1.663,1.667) C6(-1.312,1.667) C8(-0.962,1.667) C10(-0.613,1.667) C12(-0.262,1.667) C14(0.088,1.667) C16(0.437,1.667) C18(0.787,1.667) C20(1.138,1.667) C22(1.488,1.667) C24(1.837,1.667) C26(2.187,1.667) D1(-2.187,1.364) D3(-1.837,1.364) D5(-1.488,1.364) D7(-1.138,1.364) D9(-0.787,1.364) D11(-0.437,1.364) D13(-0.088,1.364) D15(0.262,1.364) D17(0.613,1.364) D19(0.962,1.364) D21(1.312,1.364) D23(1.663,1.364) D25(2.013,1.364) E2(-2.013,1.061) E4(-1.663,1.061) E6(-1.312,1.061) E8(-0.962,1.061) E10(-0.613,1.061) E12(-0.262,1.061) E14(0.088,1.061) E16(0.437,1.061) E18(0.787,1.061) E20(1.138,1.061) E22(1.488,1.061) E24(1.837,1.061) E26(2.187,1.061) F1(-2.187,0.758) F3(-1.837,0.758) F5(-1.488,0.758) F7(-1.138,0.758) F9(-0.787,0.758) F11(-0.437,0.758) F13(-0.088,0.758) F15(0.262,0.758) F17(0.613,0.758) F19(0.962,0.758) F21(1.312,0.758) F23(1.663,0.758) F25(2.013,0.758) G2(-2.013,0.455) G4(-1.663,0.455) G6(-1.312,0.455) G8(-0.962,0.455) G10(-0.613,0.455) G12(-0.262,0.455) G14(0.088,0.455) G16(0.437,0.455) G18(0.787,0.455) G20(1.138,0.455) G22(1.488,0.455) G24(1.837,0.455) G26(2.187,0.455) H1(-2.187,0.152) H3(-1.837,0.152) H5(-1.488,0.152) H7(-1.138,0.152) H9(-0.787,0.152) H11(-0.437,0.152) H13(-0.088,0.152) H15(0.262,0.152) H17(0.613,0.152) H19(0.962,0.152) H21(1.312,0.152) H23(1.663,0.152) H25(2.013,0.152) J2(-2.013,-0.152) J4(-1.663,-0.152) J6(-1.312,-0.152) J8(-0.962,-0.152) J10(-0.613,-0.152) J12(-0.262,-0.152) J14(0.088,-0.152) J16(0.437,-0.152) J18(0.787,-0.152) J20(1.138,-0.152) J22(1.488,-0.152) J24(1.837,-0.152) J26(2.187,-0.152) K1(-2.187,-0.455) K3(-1.837,-0.455) K5(-1.488,-0.455) K7(-1.138,-0.455) K9(-0.787,-0.455) K11(-0.437,-0.455) K13(-0.088,-0.455) K15(0.262,-0.455) K17(0.613,-0.455) K19(0.962,-0.455) K21(1.312,-0.455) K23(1.663,-0.455) K25(2.013,-0.455) L2(-2.013,-0.758) L4(-1.663,-0.758) L6(-1.312,-0.758) L8(-0.962,-0.758) L10(-0.613,-0.758) L12(-0.262,-0.758) L14(0.088,-0.758) L16(0.437,-0.758) L18(0.787,-0.758) L20(1.138,-0.758) L22(1.488,-0.758) L24(1.837,-0.758) L26(2.187,-0.758) M1(-2.187,-1.061) M3(-1.837,-1.061) M5(-1.488,-1.061) M7(-1.138,-1.061) M9(-0.787,-1.061) M11(-0.437,-1.061) M13(-0.088,-1.061) M15(0.262,-1.061) M17(0.613,-1.061) M19(0.962,-1.061) M21(1.312,-1.061) M23(1.663,-1.061) M25(2.013,-1.061) N2(-2.013,-1.364) N4(-1.663,-1.364) N6(-1.312,-1.364) N8(-0.962,-1.364) N10(-0.613,-1.364) N12(-0.262,-1.364) N14(0.088,-1.364) N16(0.437,-1.364) N18(0.787,-1.364) N20(1.138,-1.364) N22(1.488,-1.364) N24(1.837,-1.364) N26(2.187,-1.364) P1(-2.187,-1.667) P3(-1.837,-1.667) P5(-1.488,-1.667) P7(-1.138,-1.667) P9(-0.787,-1.667) P11(-0.437,-1.667) P13(-0.088,-1.667) P15(0.262,-1.667) P17(0.613,-1.667) P19(0.962,-1.667) P21(1.312,-1.667) P23(1.663,-1.667) P25(2.013,-1.667) R2(-2.013,-1.97) R4(-1.663,-1.97) R6(-1.312,-1.97) R8(-0.962,-1.97) R10(-0.613,-1.97) R12(-0.262,-1.97) R14(0.088,-1.97) R16(0.437,-1.97) R18(0.787,-1.97) R20(1.138,-1.97) R22(1.488,-1.97) R24(1.837,-1.97) R26(2.187,-1.97) T1(-2.187,-2.273) T3(-1.837,-2.273) T5(-1.488,-2.273) T7(-1.138,-2.273) T9(-0.787,-2.273) T11(-0.437,-2.273) T13(-0.088,-2.273) T15(0.262,-2.273) T17(0.613,-2.273) T19(0.962,-2.273) T21(1.312,-2.273) T23(1.663,-2.273) T25(2.013,-2.273)
F.SilkS:
  region: -2.8,2.845 -3.3,2.845 -2.8,3.345
  lines w0.254: -2.8,1.845 -2.8,-2.845 2.8,-2.845 2.8,2.845 -1.8,2.845
Top Assembly:
  lines w0.254: -2.69,-2.735 2.69,-2.735 2.69,2.735 -1.69,2.735 -2.69,1.735 -2.69,-2.735
  text "'.Designator'" at -4.047,-0.84 h1
Top Courtyard:
  lines w0.254: -3.69,-3.74 3.69,-3.74 3.69,3.74 -3.69,3.74 -3.69,-3.74
Top Designator:
  text ".Designator" at -7.768,-0.508 h1.52

## WLCSP-4_0.64x0.64mm_Layout2x2_P0.35mm [mm]
pads (4):
  round 0.21 smd: A1(-0.175,0.175) A2(0.175,0.175) B1(-0.175,-0.175) B2(0.175,-0.175)
F.SilkS:
  region: -0.54,0.54 -1.04,0.54 -0.54,1.04
  lines w0.254: -0.54,0.325 -0.54,-0.54 0.54,-0.54 0.54,0.54 -0.325,0.54
Top Assembly:
  lines w0.254: -0.32,-0.32 0.32,-0.32 0.32,0.32 -0.16,0.32 -0.32,0.16 -0.32,-0.32
  text "'.Designator'" at -0.607,-0.126 h0.15
Top Courtyard:
  lines w0.254: -1.32,-1.32 1.32,-1.32 1.32,1.32 -1.32,1.32 -1.32,-1.32
Top Designator:
  text ".Designator" at -7.618,-0.508 h1.52